# Altium integrated library PIC18F2320-I_SP.IntLib: 1 symbol
Pins are listed as number, name and electrical type; pins without a type are passive.

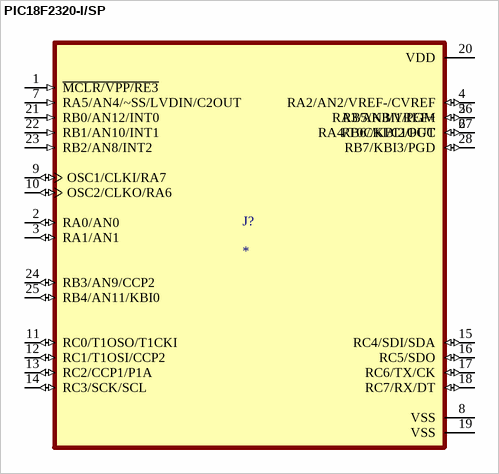
[diagram p0: symbol PIC18F2320-I/SP]

## PIC18F2320-I/SP
designator J?
MP: PIC18F2320-I/SP; Package: None; Price: None; Value: *; Availability: Unavailable
footprint DIP787W46P254L3467H508Q28
pins: 1 ~{MCLR/VPP/RE3} (in), 2 RA0/AN0 (io), 3 RA1/AN1 (io), 4 RA2/AN2/VREF-/CVREF (io), 5 RA3/AN3/VREF+ (io), 6 RA4/T0CKI/C1OUT (io), 7 RA5/AN4/~SS/LVDIN/C2OUT (in), 8 VSS (power), 9 OSC1/CLKI/RA7 (io), 10 OSC2/CLKO/RA6 (io), 11 RC0/T1OSO/T1CKI (io), 12 RC1/T1OSI/CCP2 (io), 13 RC2/CCP1/P1A (io), 14 RC3/SCK/SCL (io), 15 RC4/SDI/SDA (io), 16 RC5/SDO (io), 17 RC6/TX/CK (io), 18 RC7/RX/DT (io), 19 VSS (power), 20 VDD (power), 21 RB0/AN12/INT0 (in), 22 RB1/AN10/INT1 (in), 23 RB2/AN8/INT2 (in), 24 RB3/AN9/CCP2 (io), 25 RB4/AN11/KBI0 (io), 26 RB5/KBI1/PGM (io), 27 RB6//KBI2/PGC (io), 28 RB7/KBI3/PGD (io)